# EAGLE library part BT_HM11 (library IdleHandsProject)
HM-11 Bluetooth module surface mount. Documentation - Seed Studio <http://www.seeedstudio.com/wiki/Bluetooth_V4.0_HM-11_BLE_Module#Electrical_Characteristics>
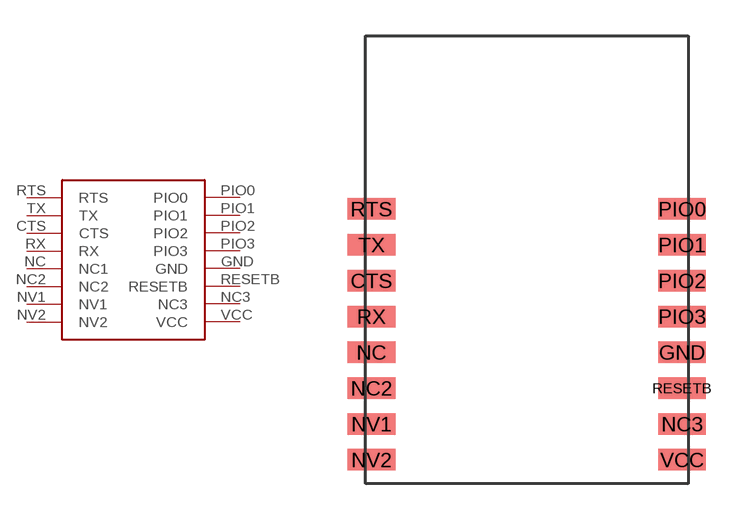
[diagram p1: symbol with the pads of HM11; footprint HM11]

Designator prefix -

## BT_HM11  [HM11]
CTS  CTS
GND  GND  pwr
NC  NC1  nc
NC2  NC2  nc
NC3  NC3  nc
NV1  NV1  nc
NV2  NV2  nc
PIO0  PIO0
PIO1  PIO1
PIO2  PIO2
PIO3  PIO3
RESETB  RESETB
RTS  RTS
RX  RX
TX  TX
VCC  VCC  pwr

## Footprint HM11 (pad centres in mm)
smd 2 x 0.9: CTS -6.5,-1; GND 6.5,-4; NC -6.5,-4; NC2 -6.5,-5.5; NC3 6.5,-7; NV1 -6.5,-7; NV2 -6.5,-8.5; PIO0 6.5,2; PIO1 6.5,0.5; PIO2 6.5,-1; PIO3 6.5,-2.5; RESETB 6.5,-5.5; RTS -6.5,2; RX -6.5,-2.5; TX -6.5,0.5; VCC 6.5,-8.5